# Altium footprint library FTSH-105-01-L-DV-K.PcbLib: 1 footprints
Each footprint in its own frame and in the unit in brackets; x right, y up, seen from the top. Pads: shape width x height; smd on the part's side, far side on the other; paste and mask are expansions set on the pad; w line width, h text height; cw(c..) or ccw(c..) is an arc to the next point about the centre after c.
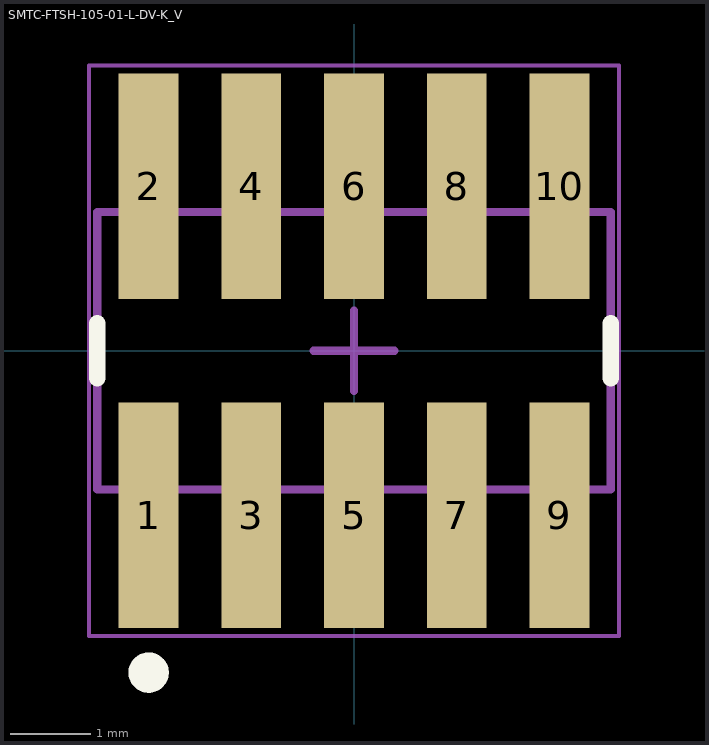
[diagram p0: the footprint, top view; thin cyan lines are the x and y axes]

## SMTC-FTSH-105-01-L-DV-K_V [mm] "CONN, 10-Leads, Body 6.35x3.43mm, Pitch 1.27mm"
height 6.25
pads (10):
  rect 0.74x2.79 smd: 1(-2.54,-2.035) 2(-2.54,2.035) 3(-1.27,-2.035) 4(-1.27,2.035) 5(0,-2.035) 6(0,2.035) 7(1.27,-2.035) 8(1.27,2.035) 9(2.54,-2.035) 10(2.54,2.035)
Top Overlay:
  circle w0.25: c-2.54,-3.98 r0.125
  lines w0.2: -3.175,-0.341 -3.175,0.341 ; 3.175,-0.341 3.175,0.341
Mechanical 13:
  lines w0.1: -3.175,-1.715 -3.175,1.715 3.175,1.715 3.175,-1.715 -3.175,-1.715
Mechanical 15:
  lines w0.05: -3.275,-3.53 -3.275,3.53 3.275,3.53 3.275,-3.53 -3.275,-3.53
  lines w0.1: -0.5,0 0.5,0 ; 0,-0.5 0,0.5
3D body "FTSH-105-01-L-DV-K.stp": height 6.12, standoff 0, extent -3.175,-2.921 3.175,2.921